# EAGLE library part S6B-XH-A_(LF)(SN) (library jst-6-angle)
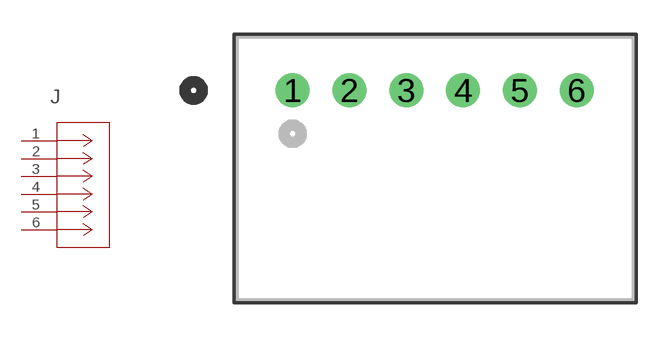
[diagram p0: symbol with the pads of CONN_S6B-XH-A_(LF)(SN)_JST; footprint CONN_S6B-XH-A_(LF)(SN)_JST]

Designator prefix J

## S6B-XH-A_(LF)(SN)CONN_S6B-XH-A_(LF)(SN)_JST (Copyright: Copyright (C) 2022 Ultra Librarian. All rights reserved.; Manufacturer_Part_Number: S6B-XH-A (LF)(SN); Mfr_Name: JST)  [CONN_S6B-XH-A_(LF)(SN)_JST]
1  1  pas
2  2  pas
3  3  pas
4  4  pas
5  5  pas
6  6  pas

## Footprint CONN_S6B-XH-A_(LF)(SN)_JST (pad centres in mm)
drill 0.991 pad 1.499 round: 1 0,0; 2 2.5,0; 3 5,0; 4 7.5,0; 5 10,0; 6 12.5,0